# EAGLE library part RELAY (library BradBoxV4)
SPDT relay (COM-00101)
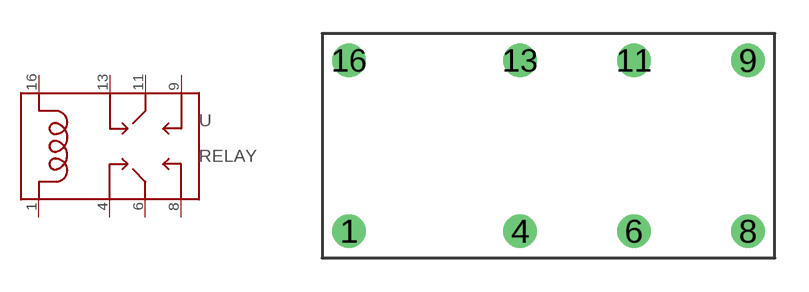
[diagram p3: symbol with the pads of RELAY-RSB; footprint RELAY-RSB]

Designator prefix -

## RELAYRSB  [RELAY-RSB]
1  1
4  4
6  6
8  8
9  9
11  11
13  13
16  16

## Footprint RELAY-RSB (pad centres in mm)
drill 1: 1 -8.89,-3.81; 4 -1.27,-3.81; 6 3.81,-3.81; 8 8.89,-3.81; 9 8.89,3.81; 11 3.81,3.81; 13 -1.27,3.81; 16 -8.89,3.81